# Altium schematic symbol library CL10B474KA8NNNC.SchLib: 1 symbol
Pins are listed as number, name and electrical type; pins without a type are passive.

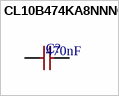
[diagram p0: symbol CL10B474KA8NNNC]

## CL10B474KA8NNNC
designator C?  value 470nF  (hidden comment: CL10B474KA8NNNC)
Multilayer Ceramic Capacitors MLCC - SMD/SMT. 25V 470nF X7R +/-10% 0603 Multilayer Ceramic Capacitors MLCC - SMD/SMT ROHS; Manufacturer: Samsung Electro-Mechanics; Component Type: Capacitors; Design Item ID: CL10B474KA8NNNC; JLCPCB Part #: C1623; Manufacturer Part Number: CL10B474KA8NNNC
footprint CL10B474KA8NNNC (C0603)
pins: 1, 2